# Altium footprint library BalanceCar_pcblib.PcbLib: 36 footprints (part 2 of 3)
Each footprint in its own frame and in the unit in brackets; x right, y up, seen from the top. Pads: shape width x height; smd on the part's side, far side on the other; paste and mask are expansions set on the pad; w line width, h text height; cw(c..) or ccw(c..) is an arc to the next point about the centre after c.
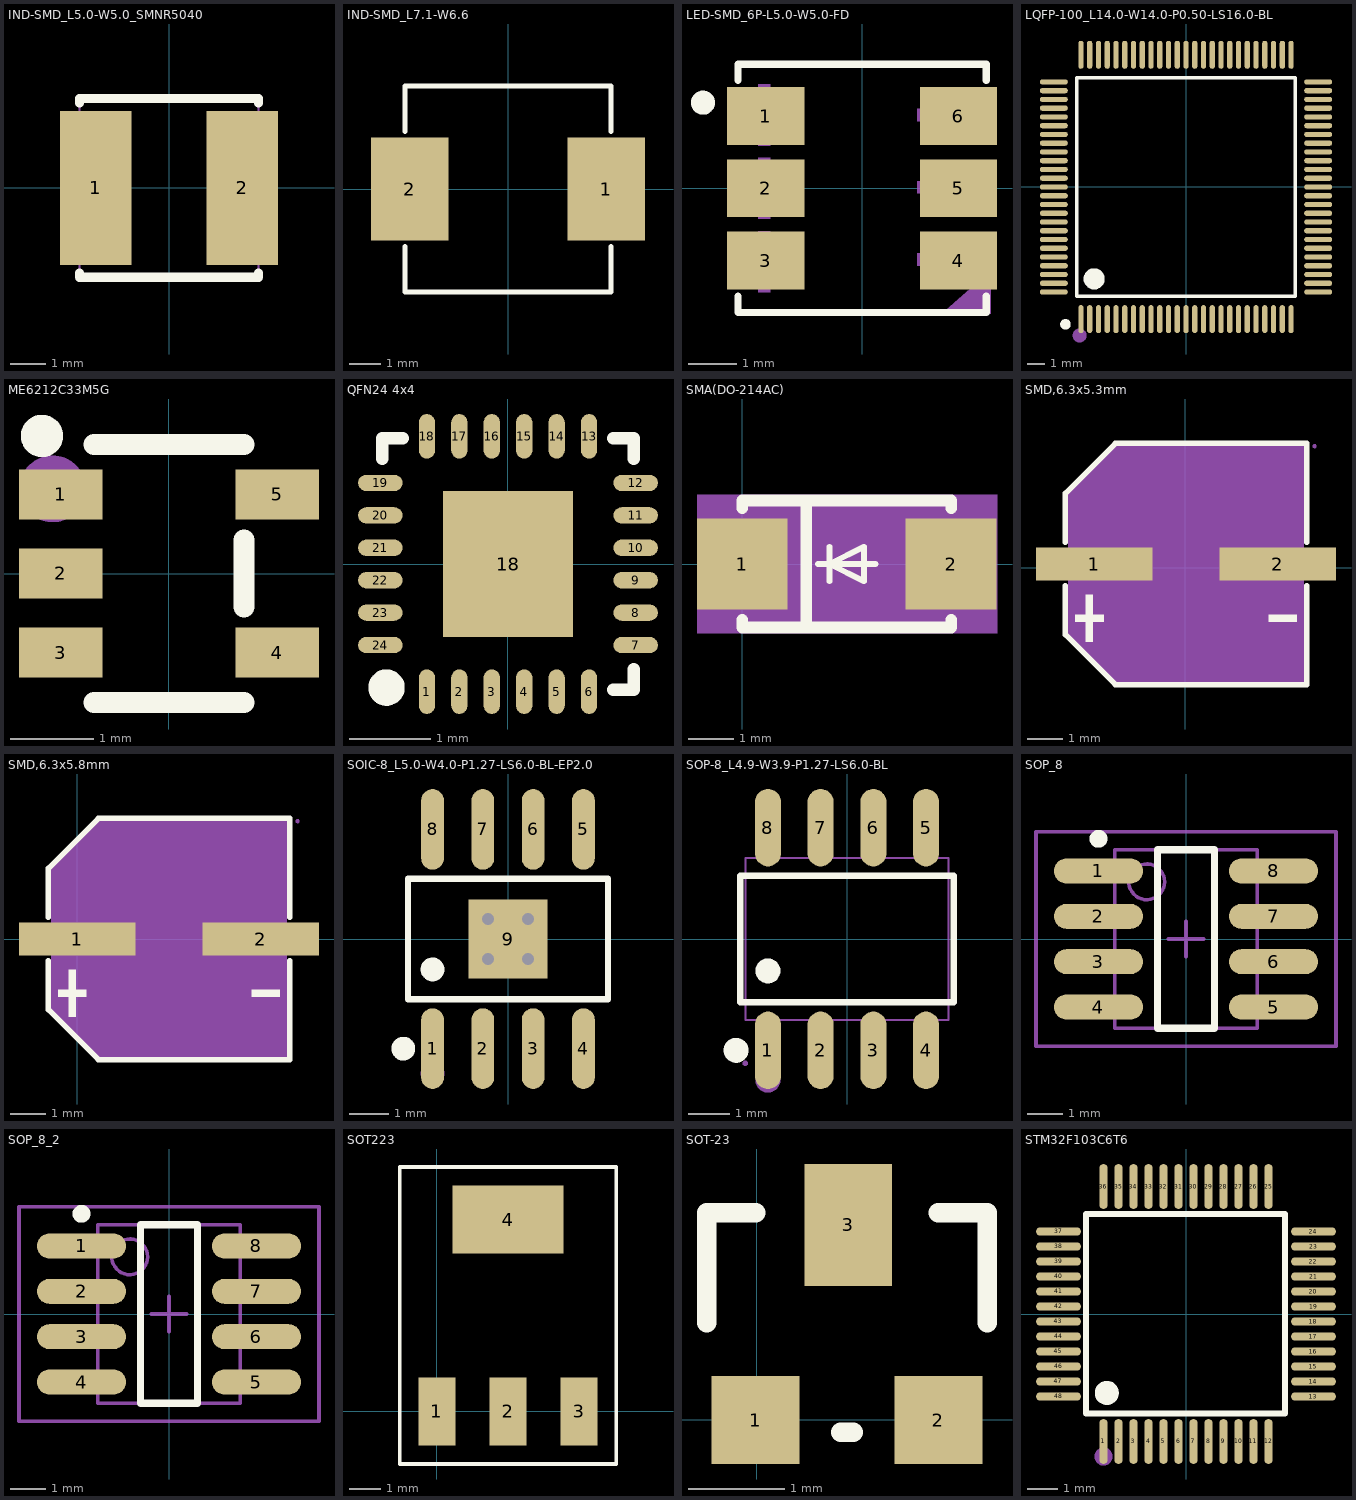
[diagram p1: the footprints below, top view; thin cyan lines are the x and y axes]

## IND-SMD_L5.0-W5.0_SMNR5040 [mil]
pads (2):
  rect 78.7x169.3 smd mask+2: 1(-80.5,0) 2(80.5,0)
Top Overlay:
  lines w10: -98.4,-93.7 -98.4,-98.4 98.4,-98.4 98.4,-93.7 ; -98.4,93.7 -98.4,98.4 98.4,98.4 98.4,93.7
Mechanical 15:
  region: -96,-98.4 -96,-97.41 -97.41,-96 -99.39,-96 -100.8,-97.41 -100.8,-98.4 -100.8,-99.39 -99.39,-100.8 -97.41,-100.8 -96,-99.39 -96,-98.4
  region: -97.2,78.7 -48,78.7 -48,-78.7 -97.2,-78.7
  region: 97.2,78.7 97.2,-78.7 48,-78.7 48,78.7
  lines w2: -98.4,-98.4 98.4,-98.4 98.4,98.4 -98.4,98.4 -98.4,-98.4

## IND-SMD_L7.1-W6.6 [mm]
pads (2):
  rect 2.474x3.32 smd: 1(3.153,0) 2(-3.153,0)
Top Overlay:
  lines w0.152: -3.302,-1.84 -3.302,-3.302 3.302,-3.302 3.302,-1.84 ; -3.302,1.84 -3.302,3.302 3.302,3.302 3.302,1.84

## LED-SMD_6P-L5.0-W5.0-FD [mm]
pads (6):
  rect 1.6x1.2 smd: 1(-2.001,1.5) 2(-2.001,0) 3(-2.001,-1.5) 4(2.001,-1.5) 5(2.001,0) 6(2.001,1.5)
Top Overlay:
  circle w0.25: c-3.302,1.778 r0.125
  lines w0.152: -2.576,-2.238 -2.576,-2.576 2.576,-2.576 2.576,-2.238 ; -2.576,2.239 -2.576,2.576 2.576,2.576 2.576,2.239
Mechanical 15:
  region: 2.667,-1.714 2.667,-2.604 1.651,-2.603
  region: -2.667,1.651 -2.159,1.651 -2.159,2.159 -1.905,2.159 -1.905,1.651 -1.397,1.651 -1.397,1.397 -1.905,1.397 -1.905,0.889 -2.159,0.889 -2.159,1.397 -2.667,1.397 -2.667,1.524
  region: -2.667,0.127 -2.159,0.127 -2.159,0.635 -1.905,0.635 -1.905,0.127 -1.397,0.127 -1.397,-0.127 -1.905,-0.127 -1.905,-0.635 -2.159,-0.635 -2.159,-0.127 -2.667,-0.127 -2.667,0
  region: -2.667,-1.397 -2.159,-1.397 -2.159,-0.889 -1.905,-0.889 -1.905,-1.397 -1.397,-1.397 -1.397,-1.651 -1.905,-1.651 -1.905,-2.159 -2.159,-2.159 -2.159,-1.651 -2.667,-1.651 -2.667,-1.524
  region: 1.143,1.651 2.667,1.651 2.667,1.524 2.667,1.397 1.143,1.397
  region: 1.143,0.151 2.667,0.151 2.667,0.024 2.667,-0.103 1.143,-0.103
  region: 1.143,-1.349 2.667,-1.349 2.667,-1.476 2.667,-1.603 1.143,-1.603

## LQFP-100_L14.0-W14.0-P0.50-LS16.0-BL [mm]
pads (100):
  oval 0.3x1.6 smd: 1(-6,-7.55) 2(-5.5,-7.55) 3(-5,-7.55) 4(-4.5,-7.55) 5(-4,-7.55) 6(-3.5,-7.55) 7(-3,-7.55) 8(-2.5,-7.55) 9(-2,-7.55) 10(-1.5,-7.55) 11(-1,-7.55) 12(-0.5,-7.55) 13(0,-7.55) 14(0.5,-7.55) 15(1,-7.55) 16(1.5,-7.55) 17(2,-7.55) 18(2.5,-7.55) 19(3,-7.55) 20(3.5,-7.55) 21(4,-7.55) 22(4.5,-7.55) 23(5,-7.55) 24(5.5,-7.55) 25(6,-7.55) 51(6,7.55) 52(5.5,7.55) 53(5,7.55) 54(4.5,7.55) 55(4,7.55) 56(3.5,7.55) 57(3,7.55) 58(2.5,7.55) 59(2,7.55) 60(1.5,7.55) 61(1,7.55) 62(0.5,7.55) 63(0,7.55) 64(-0.5,7.55) 65(-1,7.55) 66(-1.5,7.55) 67(-2,7.55) 68(-2.5,7.55) 69(-3,7.55) 70(-3.5,7.55) 71(-4,7.55) 72(-4.5,7.55) 73(-5,7.55) 74(-5.5,7.55) 75(-6,7.55)
  oval 1.6x0.3 smd: 26(7.55,-6) 27(7.55,-5.5) 28(7.55,-5) 29(7.55,-4.5) 30(7.55,-4) 31(7.55,-3.5) 32(7.55,-3) 33(7.55,-2.5) 34(7.55,-2) 35(7.55,-1.5) 36(7.55,-1) 37(7.55,-0.5) 38(7.55,0) 39(7.55,0.5) 40(7.55,1) 41(7.55,1.5) 42(7.55,2) 43(7.55,2.5) 44(7.55,3) 45(7.55,3.5) 46(7.55,4) 47(7.55,4.5) 48(7.55,5) 49(7.55,5.5) 50(7.55,6) 76(-7.55,6) 77(-7.55,5.5) 78(-7.55,5) 79(-7.55,4.5) 80(-7.55,4) 81(-7.55,3.5) 82(-7.55,3) 83(-7.55,2.5) 84(-7.55,2) 85(-7.55,1.5) 86(-7.55,1) 87(-7.55,0.5) 88(-7.55,0) 89(-7.55,-0.5) 90(-7.55,-1) 91(-7.55,-1.5) 92(-7.55,-2) 93(-7.55,-2.5) 94(-7.55,-3) 95(-7.55,-3.5) 96(-7.55,-4) 97(-7.55,-4.5) 98(-7.55,-5) 99(-7.55,-5.5) 100(-7.55,-6)
Top Overlay:
  lines w0.2: -6.25,-6.25 -6.25,6.25 6.25,6.25 6.25,-6.25 -6.25,-6.25
  lines w0.3: -6.883,-7.696 ccw(c-6.882,-7.846) -6.881,-7.696
  lines w0.6: -5.25,-4.95 ccw(c-5.248,-5.25) -5.245,-4.95
Top Paste:
  drawing of 100 lines, arcs and shapes, not listed
Mechanical 15:
  circle w0.4: c-6.071,-8.484 r0.2

## ME6212C33M5G [mm]
pads (5):
  rect 1x0.6 smd: 1(-1.3,0.95) 2(-1.3,0) 3(-1.3,-0.95) 4(1.3,-0.95) 5(1.3,0.95)
Top Overlay:
  circle w0.254: c-1.524,1.651 r0.127
  lines w0.254: -0.9,-1.55 0.9,-1.55 ; -0.9,1.55 0.9,1.55 ; 0.9,-0.4 0.9,0.4
Mechanical 15:
  circle w0.4: c-1.397,1.016 r0.2

## QFN24 4x4 [mm]
pads (25):
  oval 0.2x0.55 smd: 1(-1,-1.575) 2(-0.6,-1.575) 3(-0.2,-1.575) 4(0.2,-1.575) 5(0.6,-1.575) 6(1,-1.575) 13(1,1.575) 14(0.6,1.575) 15(0.2,1.575) 16(-0.2,1.575) 17(-0.6,1.575) 18(-1,1.575)
  oval 0.55x0.2 smd: 7(1.575,-1) 8(1.575,-0.6) 9(1.575,-0.2) 10(1.575,0.2) 11(1.575,0.6) 12(1.575,1) 19(-1.575,1) 20(-1.575,0.6) 21(-1.575,0.2) 22(-1.575,-0.2) 23(-1.575,-0.6) 24(-1.575,-1)
  rect 1.6x1.8 smd: 18(0,0)
Top Overlay:
  circle w0.25: c-1.499,-1.524 r0.1
  lines w0.152: -1.55,1.296 -1.55,1.55 -1.296,1.55 ; 1.296,-1.55 1.55,-1.55 1.55,-1.296 ; 1.296,1.55 1.55,1.55 1.55,1.296

## SMA(DO-214AC) [mm]
pads (2):
  rect 2x2 smd: 1(0,0) 2(4.6,0)
Top Overlay:
  lines w0.127: 1.665,0 2.935,0 ; 1.919,-0.381 1.919,0 ; 1.919,0.381 1.919,0 ; 1.919,0 2.681,0.381 2.681,0 2.681,-0.381 1.919,0
  lines w0.254: 0,-1.231 0,-1.4 4.6,-1.4 4.6,-1.231 ; 0,1.231 0,1.4 4.6,1.4 4.6,1.231 ; 1.411,-1.4 1.411,1.4
Mechanical 4:
  region: -1,1.527 5.613,1.527 5.613,-1.527 -1,-1.527
Mechanical 5:
  region: 3.6,1 5.6,1 5.6,-1 3.6,-1
  region: -1,1 1,1 1,-1 -1,-1
Mechanical 15:
  lines w0.003: 2.281,0.513 2.332,0.564

## SMD,6.3x5.3mm [mm]
pads (2):
  rect 3.26x0.91 smd: 1(-2.554,0.104) 2(2.586,0.104)
Top Overlay:
  region: 3.118,-1.315 3.118,-1.513 2.326,-1.513 2.326,-1.315
  region: -3.086,-1.315 -3.086,-1.513 -2.294,-1.513 -2.294,-1.315
  region: -2.789,-0.754 -2.789,-2.074 -2.591,-2.074 -2.591,-0.754
  lines w0.152: -3.36,-0.504 -3.36,-1.876 -1.964,-3.273 3.393,-3.273 3.393,-0.504 ; -3.36,0.711 -3.36,2.084 -1.964,3.48 3.393,3.48 3.393,0.711
Mechanical 4:
  region: 3.316,3.404 3.316,-3.196 -1.964,-3.196 -3.284,-1.876 -3.284,2.084 -1.964,3.404
Mechanical 5:
  region: 3.616,0.429 3.616,-0.221 1.016,-0.221 1.016,0.429
  region: -3.584,0.429 -3.584,-0.221 -0.984,-0.221 -0.984,0.429
Mechanical 6:
  circle w0.06: c3.616,3.404 r0.03
Mechanical 15:
  region: 3.118,0.203 3.118,0.005 2.326,0.005 2.326,0.203
  region: -3.086,0.203 -3.086,0.005 -2.294,0.005 -2.294,0.203
  region: -2.789,0.764 -2.789,-0.556 -2.591,-0.556 -2.591,0.764

## SMD,6.3x5.8mm [mm]
pads (2):
  rect 3.26x0.91 smd: 1(0,0) 2(5.14,0)
Top Overlay:
  region: -0.235,-0.858 -0.235,-2.178 -0.037,-2.178 -0.037,-0.858
  region: -0.532,-1.419 -0.532,-1.617 0.26,-1.617 0.26,-1.419
  region: 5.672,-1.419 5.672,-1.617 4.88,-1.617 4.88,-1.419
  lines w0.152: -0.806,-0.607 -0.806,-1.98 0.59,-3.376 5.946,-3.376 5.946,-0.607 ; -0.806,0.607 -0.806,1.98 0.59,3.376 5.946,3.376 5.946,0.607
Mechanical 4:
  region: 5.87,3.3 5.87,-3.3 0.59,-3.3 -0.73,-1.98 -0.73,1.98 0.59,3.3
Mechanical 5:
  region: -1.03,0.325 -1.03,-0.325 1.57,-0.325 1.57,0.325
  region: 6.17,0.325 6.17,-0.325 3.57,-0.325 3.57,0.325
Mechanical 6:
  circle w0.06: c6.17,3.3 r0.03
Mechanical 15:
  region: -0.235,0.66 -0.235,-0.66 -0.037,-0.66 -0.037,0.66
  region: -0.532,0.099 -0.532,-0.099 0.26,-0.099 0.26,0.099
  region: 5.672,0.099 5.672,-0.099 4.88,-0.099 4.88,0.099

## SOIC-8_L5.0-W4.0-P1.27-LS6.0-BL-EP2.0 [mil]
pads (9):
  oval 22.6x80.24 smd: 1(-75,-109.02) 2(-25,-109.02) 3(25,-109.02) 4(75,-109.02) 5(75,109.02) 6(25,109.02) 7(-25,109.02) 8(-75,109.02)
  rect 78.74x78.74 smd: 9(0,0)
via 19.69,19.68 diameter 24 hole 12
via -19.68,19.68 diameter 24 hole 12
via -19.68,-19.69 diameter 24 hole 12
via 19.69,-19.69 diameter 24 hole 12
Top Overlay:
  circle w11.81: c-104.11,-109.02 r5.91
  circle w11.81: c-75,-30.28 r5.91
  lines w6: -99.46,-59.9 -99.46,59.9 99.46,59.9 99.46,-59.9 -99.46,-59.9
Mechanical 15:
  circle w11.81: c-75,-133.86 r5.91

## SOP-8_L4.9-W3.9-P1.27-LS6.0-BL [mm]
pads (8):
  oval 0.63x1.865 smd mask+0.051: 1(-1.905,-2.682) 2(-0.635,-2.682) 3(0.635,-2.682) 4(1.905,-2.682) 5(1.905,2.682) 6(0.635,2.682) 7(-0.635,2.682) 8(-1.905,2.682)
Top Overlay:
  circle w0.3: c-2.672,-2.682 r0.15
  circle w0.3: c-1.905,-0.769 r0.15
  lines w0.152: -2.576,-1.521 2.576,-1.521 2.576,1.521 -2.576,1.521 -2.576,-1.521
Mechanical 6:
  circle w0.3: c-1.905,-3.4 r0.15
Mechanical 15:
  region: -2.115,-3 -2.115,-2.165 -1.695,-2.165 -1.695,-3
  region: -2.115,-2.175 -2.115,-1.94 -1.695,-1.94 -1.695,-2.175
  region: -0.845,-3 -0.845,-2.165 -0.425,-2.165 -0.425,-3
  region: -0.845,-2.175 -0.845,-1.94 -0.425,-1.94 -0.425,-2.175
  region: 0.425,-3 0.425,-2.165 0.845,-2.165 0.845,-3
  region: 0.425,-2.175 0.425,-1.94 0.845,-1.94 0.845,-2.175
  region: 1.695,-3 1.695,-2.165 2.115,-2.165 2.115,-3
  region: 1.695,-2.175 1.695,-1.94 2.115,-1.94 2.115,-2.175
  region: -2.115,2.165 -2.115,3 -1.695,3 -1.695,2.165
  region: -2.115,1.94 -2.115,2.175 -1.695,2.175 -1.695,1.94
  region: -0.845,2.165 -0.845,3 -0.425,3 -0.425,2.165
  region: -0.845,1.94 -0.845,2.175 -0.425,2.175 -0.425,1.94
  region: 0.425,2.165 0.425,3 0.845,3 0.845,2.165
  region: 0.425,1.94 0.425,2.175 0.845,2.175 0.845,1.94
  region: 1.695,2.165 1.695,3 2.115,3 2.115,2.165
  region: 1.695,1.94 1.695,2.175 2.115,2.175 2.115,1.94
  region: -2.39,-3 -2.39,-2.975 -2.425,-2.94 -2.475,-2.94 -2.51,-2.975 -2.51,-3 -2.51,-3.025 -2.475,-3.06 -2.425,-3.06 -2.39,-3.025 -2.39,-3
  lines w0.051: -2.45,-1.95 2.45,-1.95 2.45,1.95 -2.45,1.95 -2.45,-1.95

## SOP_8 [mm] "SOIC, 8-Leads, Body 5.3x5.4mm (max), Pitch 1.27mm, IPC Medium Density"
height 2.16
pads (8):
  oval 2.5x0.7 smd: 1(-2.45,1.905) 2(-2.45,0.635) 3(-2.45,-0.635) 4(-2.45,-1.905) 5(2.45,-1.905) 6(2.45,-0.635) 7(2.45,0.635) 8(2.45,1.905)
Top Overlay:
  circle w0.25: c-2.45,2.805 r0.125
  lines w0.2: -0.8,-2.5 0.8,-2.5 0.8,2.5 -0.8,2.5 -0.8,-2.5
Mechanical 13:
  circle w0.1: c-1.1,1.6 r0.5
  lines w0.1: -2,-2.5 2,-2.5 2,2.5 -2,2.5 -2,-2.5
Mechanical 15:
  lines w0.1: -0.5,0 0.5,0 ; 0,-0.5 0,0.5 ; -4.2,-3 4.2,-3 4.2,3 -4.2,3 -4.2,-3

## SOP_8_2 [mm]
pads (8):
  oval 2.5x0.7 smd: 1(-2.45,1.905) 2(-2.45,0.635) 3(-2.45,-0.635) 4(-2.45,-1.905) 5(2.45,-1.905) 6(2.45,-0.635) 7(2.45,0.635) 8(2.45,1.905)
Top Overlay:
  circle w0.25: c-2.45,2.805 r0.125
  lines w0.2: -0.8,-2.5 0.8,-2.5 0.8,2.5 -0.8,2.5 -0.8,-2.5
Mechanical 13:
  circle w0.1: c-1.1,1.6 r0.5
  lines w0.1: -2,-2.5 2,-2.5 2,2.5 -2,2.5 -2,-2.5
Mechanical 15:
  lines w0.1: -0.5,0 0.5,0 ; 0,-0.5 0,0.5 ; -4.2,-3 4.2,-3 4.2,3 -4.2,3 -4.2,-3

## SOT223 [mm]
height 1.6
pads (4):
  rect 1.2x2.2 smd: 1(0,0) 2(2.3,0) 3(4.6,0)
  rect 3.6x2.2 smd: 4(2.3,6.2)
Top Overlay:
  lines w0.127: -1.2,-1.7 -1.2,7.9 5.8,7.9 5.8,-1.7 -1.2,-1.7

## SOT-23 [mil]
pads (3):
  rect 36x36 smd: 1(-0.51,-0.15) 2(74.49,-0.15)
  rect 36x50 smd: 3(37.49,79.85)
Top Overlay:
  lines w8: -20.51,39.85 -20.51,84.85 -0.51,84.85 ; 34.49,-5.15 39.49,-5.15 ; 74.49,84.85 94.49,84.85 94.49,39.85

## STM32F103C6T6 [mm]
pads (48):
  oval 0.27x1.5 smd: 1(-2.75,-4.25) 2(-2.25,-4.25) 3(-1.75,-4.25) 4(-1.25,-4.25) 5(-0.75,-4.25) 6(-0.25,-4.25) 7(0.25,-4.25) 8(0.75,-4.25) 9(1.25,-4.25) 10(1.75,-4.25) 11(2.25,-4.25) 12(2.75,-4.25) 25(2.75,4.25) 26(2.25,4.25) 27(1.75,4.25) 28(1.25,4.25) 29(0.75,4.25) 30(0.25,4.25) 31(-0.25,4.25) 32(-0.75,4.25) 33(-1.25,4.25) 34(-1.75,4.25) 35(-2.25,4.25) 36(-2.75,4.25)
  oval 1.5x0.27 smd: 13(4.25,-2.75) 14(4.25,-2.25) 15(4.25,-1.75) 16(4.25,-1.25) 17(4.25,-0.75) 18(4.25,-0.25) 19(4.25,0.25) 20(4.25,0.75) 21(4.25,1.25) 22(4.25,1.75) 23(4.25,2.25) 24(4.25,2.75) 37(-4.25,2.75) 38(-4.25,2.25) 39(-4.25,1.75) 40(-4.25,1.25) 41(-4.25,0.75) 42(-4.25,0.25) 43(-4.25,-0.25) 44(-4.25,-0.75) 45(-4.25,-1.25) 46(-4.25,-1.75) 47(-4.25,-2.25) 48(-4.25,-2.75)
Top Overlay:
  lines w0.2: -2.896,3.34 3.302,3.34 3.302,-3.315 -3.327,-3.315 -3.327,3.34 -2.565,3.34
  lines w0.4: -2.641,-2.43 ccw(c-2.64,-2.63) -2.639,-2.43
Mechanical 15:
  circle w0.3: c-2.75,-4.75 r0.15